# EAGLE library part INA219 (library AWJLEagleLib)
Texas Instruments INA219 power monitor
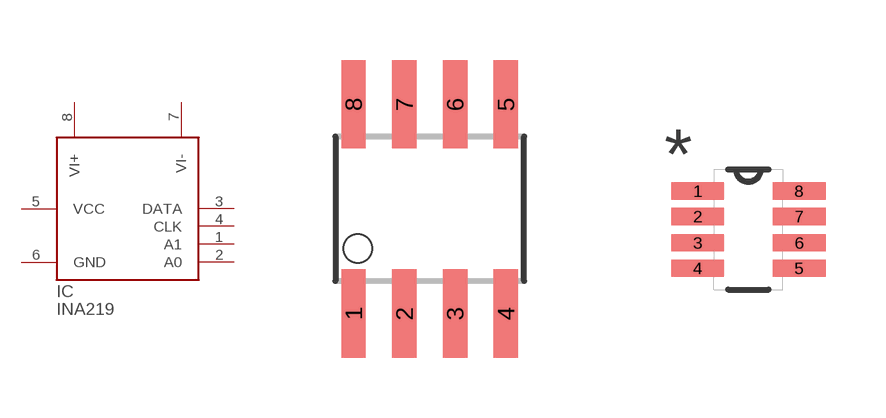
[diagram p4: symbol with the pads of SO08; footprints SO08, SOT23-8]

Designator prefix IC

## INA219D  [SO08]
1  A1  in
2  A0  in
3  DATA  in
4  CLK  in
5  VCC  pwr
6  GND  pwr
7  VI-  in
8  VI+  in

## INA219DCN  [SOT23-8]
1  VI+  in
2  VI-  in
3  GND  pwr
4  VCC  pwr
5  CLK  in
6  DATA  in
7  A0  in
8  A1  in

## Footprint SO08 (pad centres in mm)
smd 0.61 x 2.21: 1 -1.905,-2.616; 2 -0.635,-2.616; 3 0.635,-2.616; 4 1.905,-2.616; 5 1.905,2.616; 6 0.635,2.616; 7 -0.635,2.616; 8 -1.905,2.616

## Footprint SOT23-8 (pad centres in mm)
smd 1.321 x 0.432: 1 -1.27,0.965; 2 -1.27,0.33; 3 -1.27,-0.33; 4 -1.27,-0.965; 5 1.27,-0.965; 6 1.27,-0.33; 7 1.27,0.33; 8 1.27,0.965